# EAGLE library part LTC3105 (library MyDuino)
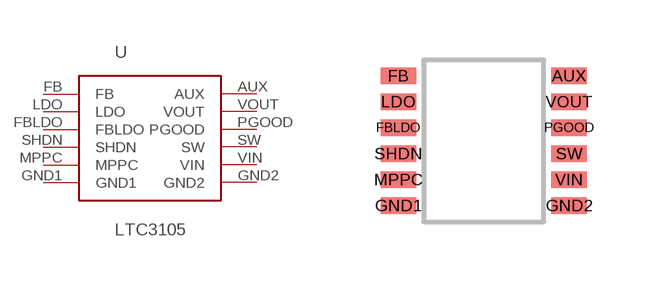
[diagram p3: symbol with the pads of LTC3105; footprint LTC3105]

Designator prefix -

## LTC3105  [LTC3105]
AUX  AUX
FB  FB
FBLDO  FBLDO
GND1  GND1
GND2  GND2
LDO  LDO
MPPC  MPPC
PGOOD  PGOOD
SHDN  SHDN
SW  SW
VIN  VIN
VOUT  VOUT

## Footprint LTC3105 (pad centres in mm)
smd 0.89 x 0.42: AUX 3.82,1.95; FB -0.45,1.95; FBLDO -0.45,0.65; GND1 -0.45,-1.3; GND2 3.82,-1.3; LDO -0.45,1.3; MPPC -0.45,-0.65; PGOOD 3.82,0.65; SHDN -0.45,0; SW 3.82,0; VIN 3.82,-0.65; VOUT 3.82,1.3